# Altium schematic symbol library M8S-04PFFP-SF8001.SchLib: 1 symbol
Pins are listed as number, name and electrical type; pins without a type are passive.

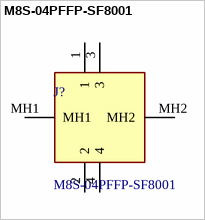
[diagram p0: symbol M8S-04PFFP-SF8001]

## M8S-04PFFP-SF8001
designator J?
Connector: M8; female; PIN:4; straight; on PCBs; socket; 4A; IP68; Manufacturer_Name: Amphenol; Geometry.Height: 15.25mm; TME Electronic Components Part Number: *; TME Electronic Components Price/Stock: *; Manufacturer_Part_Number: M8S-04PFFP-SF8001; Datasheet Link: *
footprint M8S04PFFPSF8001
pins: 1, 2, 3, 4, MH1, MH2